# Altium schematic symbol library WB_CONNECTOR.SchLib: 19 symbols
Pins are listed as number, name and electrical type; pins without a type are passive.

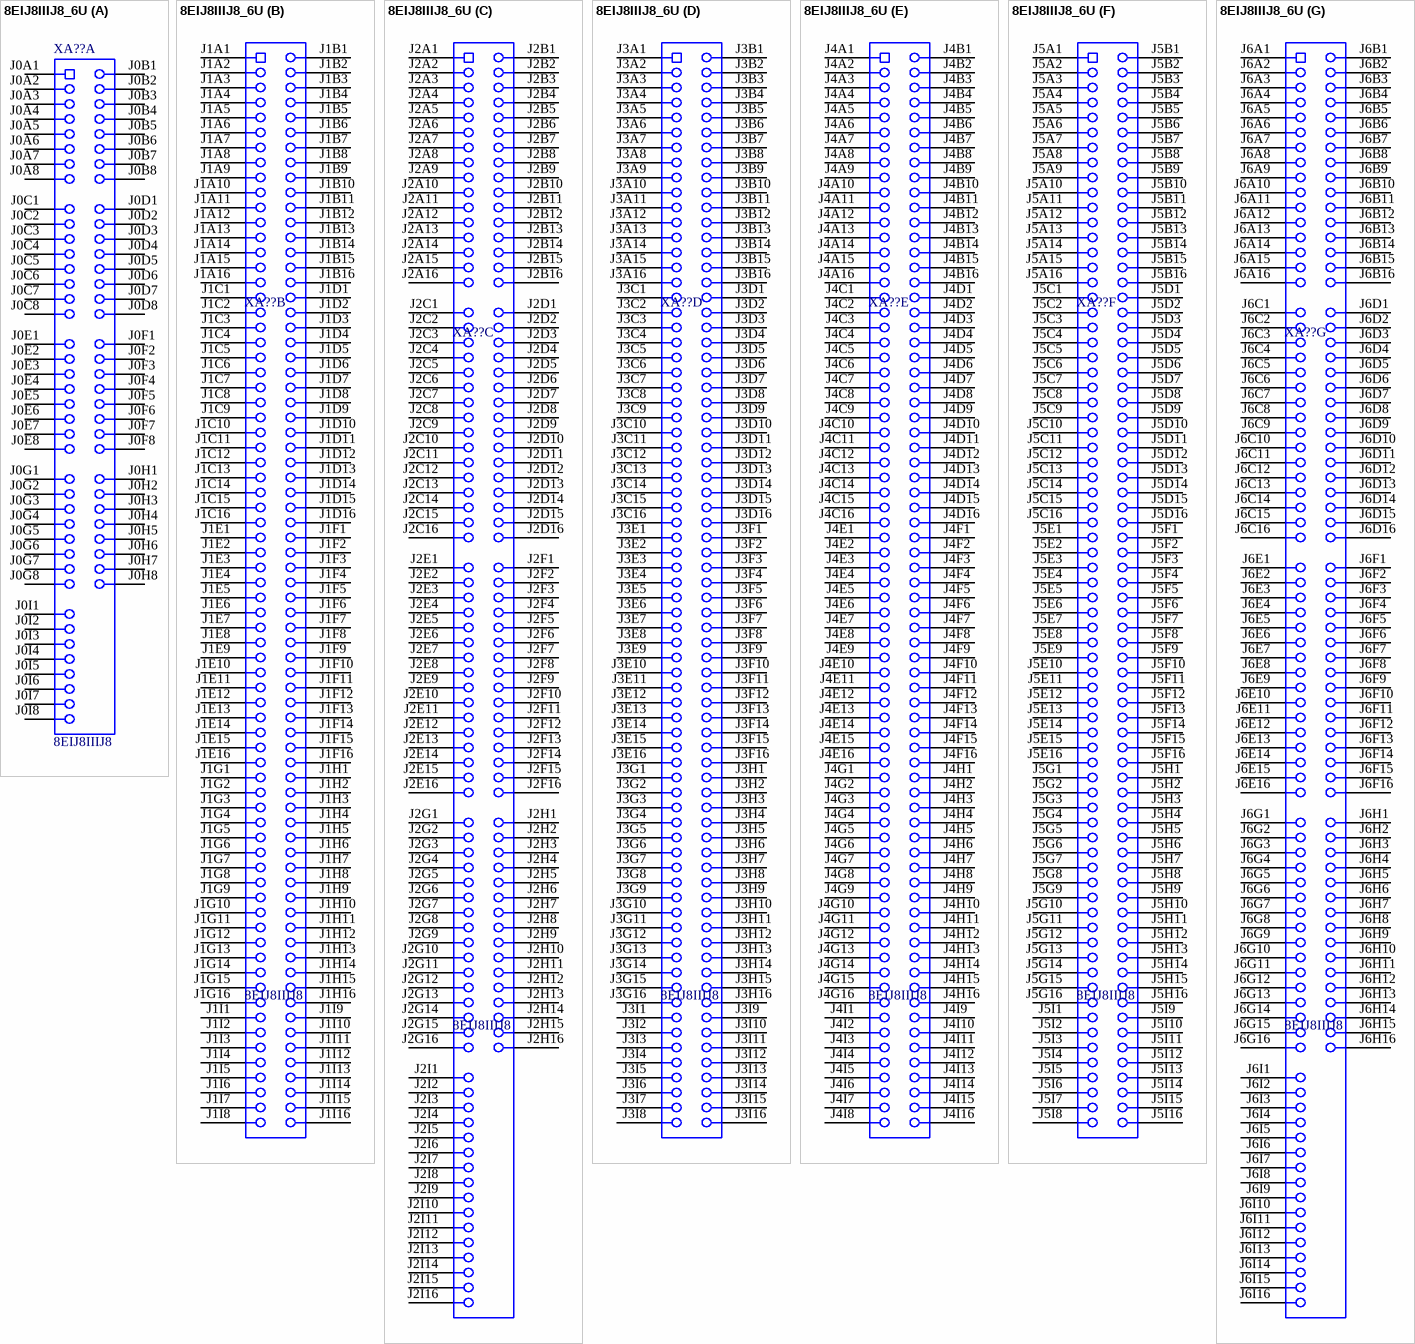
[diagram p0: symbol 8EIJ8IIIJ8_6U]

## 8EIJ8IIIJ8_6U
designator XA??, comment 8EIJ8IIIJ8
footprint 8EIJ8IIIJ8
part A pins: J0A1, J0A2, J0A3, J0A4, J0A5, J0A6, J0A7, J0A8, J0B1, J0B2, J0B3, J0B4, J0B5, J0B6, J0B7, J0B8, J0C1, J0C2, J0C3, J0C4, J0C5, J0C6, J0C7, J0C8, J0D1, J0D2, J0D3, J0D4, J0D5, J0D6, J0D7, J0D8, J0E1, J0E2, J0E3, J0E4, J0E5, J0E6, J0E7, J0E8, J0F1, J0F2, J0F3, J0F4, J0F5, J0F6, J0F7, J0F8, J0G1, J0G2, J0G3, J0G4, J0G5, J0G6, J0G7, J0G8, J0H1, J0H2, J0H3, J0H4, J0H5, J0H6, J0H7, J0H8, J0I1, J0I2, J0I3, J0I4, J0I5, J0I6, J0I7, J0I8
part B pins: J1A1, J1A2, J1A3, J1A4, J1A5, J1A6, J1A7, J1A8, J1A9, J1A10, J1A11, J1A12, J1A13, J1A14, J1A15, J1A16, J1B1, J1B2, J1B3, J1B4, J1B5, J1B6, J1B7, J1B8, J1B9, J1B10, J1B11, J1B12, J1B13, J1B14, J1B15, J1B16, J1C1, J1C2, J1C3, J1C4, J1C5, J1C6, J1C7, J1C8, J1C9, J1C10, J1C11, J1C12, J1C13, J1C14, J1C15, J1C16, J1D1, J1D2, J1D3, J1D4, J1D5, J1D6, J1D7, J1D8, J1D9, J1D10, J1D11, J1D12, J1D13, J1D14, J1D15, J1D16, J1E1, J1E2, J1E3, J1E4, J1E5, J1E6, J1E7, J1E8, J1E9, J1E10, J1E11, J1E12, J1E13, J1E14, J1E15, J1E16, J1F1, J1F2, J1F3, J1F4, J1F5, J1F6, J1F7, J1F8, J1F9, J1F10, J1F11, J1F12, J1F13, J1F14, J1F15, J1F16, J1G1, J1G2, J1G3, J1G4, J1G5, J1G6, J1G7, J1G8, J1G9, J1G10, J1G11, J1G12, J1G13, J1G14, J1G15, J1G16, J1H1, J1H2, J1H3, J1H4, J1H5, J1H6, J1H7, J1H8, J1H9, J1H10, J1H11, J1H12, J1H13, J1H14, J1H15, J1H16, J1I1, J1I2, J1I3, J1I4, J1I5, J1I6, J1I7, J1I8, J1I9, J1I10, J1I11, J1I12, J1I13, J1I14, J1I15, J1I16
part C pins: J2A1, J2A2, J2A3, J2A4, J2A5, J2A6, J2A7, J2A8, J2A9, J2A10, J2A11, J2A12, J2A13, J2A14, J2A15, J2A16, J2B1, J2B2, J2B3, J2B4, J2B5, J2B6, J2B7, J2B8, J2B9, J2B10, J2B11, J2B12, J2B13, J2B14, J2B15, J2B16, J2C1, J2C2, J2C3, J2C4, J2C5, J2C6, J2C7, J2C8, J2C9, J2C10, J2C11, J2C12, J2C13, J2C14, J2C15, J2C16, J2D1, J2D2, J2D3, J2D4, J2D5, J2D6, J2D7, J2D8, J2D9, J2D10, J2D11, J2D12, J2D13, J2D14, J2D15, J2D16, J2E1, J2E2, J2E3, J2E4, J2E5, J2E6, J2E7, J2E8, J2E9, J2E10, J2E11, J2E12, J2E13, J2E14, J2E15, J2E16, J2F1, J2F2, J2F3, J2F4, J2F5, J2F6, J2F7, J2F8, J2F9, J2F10, J2F11, J2F12, J2F13, J2F14, J2F15, J2F16, J2G1, J2G2, J2G3, J2G4, J2G5, J2G6, J2G7, J2G8, J2G9, J2G10, J2G11, J2G12, J2G13, J2G14, J2G15, J2G16, J2H1, J2H2, J2H3, J2H4, J2H5, J2H6, J2H7, J2H8, J2H9, J2H10, J2H11, J2H12, J2H13, J2H14, J2H15, J2H16, J2I1, J2I2, J2I3, J2I4, J2I5, J2I6, J2I7, J2I8, J2I9, J2I10, J2I11, J2I12, J2I13, J2I14, J2I15, J2I16
part D pins: J3A1, J3A2, J3A3, J3A4, J3A5, J3A6, J3A7, J3A8, J3A9, J3A10, J3A11, J3A12, J3A13, J3A14, J3A15, J3A16, J3B1, J3B2, J3B3, J3B4, J3B5, J3B6, J3B7, J3B8, J3B9, J3B10, J3B11, J3B12, J3B13, J3B14, J3B15, J3B16, J3C1, J3C2, J3C3, J3C4, J3C5, J3C6, J3C7, J3C8, J3C9, J3C10, J3C11, J3C12, J3C13, J3C14, J3C15, J3C16, J3D1, J3D2, J3D3, J3D4, J3D5, J3D6, J3D7, J3D8, J3D9, J3D10, J3D11, J3D12, J3D13, J3D14, J3D15, J3D16, J3E1, J3E2, J3E3, J3E4, J3E5, J3E6, J3E7, J3E8, J3E9, J3E10, J3E11, J3E12, J3E13, J3E14, J3E15, J3E16, J3F1, J3F2, J3F3, J3F4, J3F5, J3F6, J3F7, J3F8, J3F9, J3F10, J3F11, J3F12, J3F13, J3F14, J3F15, J3F16, J3G1, J3G2, J3G3, J3G4, J3G5, J3G6, J3G7, J3G8, J3G9, J3G10, J3G11, J3G12, J3G13, J3G14, J3G15, J3G16, J3H1, J3H2, J3H3, J3H4, J3H5, J3H6, J3H7, J3H8, J3H9, J3H10, J3H11, J3H12, J3H13, J3H14, J3H15, J3H16, J3I1, J3I2, J3I3, J3I4, J3I5, J3I6, J3I7, J3I8, J3I9, J3I10, J3I11, J3I12, J3I13, J3I14, J3I15, J3I16
part E pins: J4A1, J4A2, J4A3, J4A4, J4A5, J4A6, J4A7, J4A8, J4A9, J4A10, J4A11, J4A12, J4A13, J4A14, J4A15, J4A16, J4B1, J4B2, J4B3, J4B4, J4B5, J4B6, J4B7, J4B8, J4B9, J4B10, J4B11, J4B12, J4B13, J4B14, J4B15, J4B16, J4C1, J4C2, J4C3, J4C4, J4C5, J4C6, J4C7, J4C8, J4C9, J4C10, J4C11, J4C12, J4C13, J4C14, J4C15, J4C16, J4D1, J4D2, J4D3, J4D4, J4D5, J4D6, J4D7, J4D8, J4D9, J4D10, J4D11, J4D12, J4D13, J4D14, J4D15, J4D16, J4E1, J4E2, J4E3, J4E4, J4E5, J4E6, J4E7, J4E8, J4E9, J4E10, J4E11, J4E12, J4E13, J4E14, J4E15, J4E16, J4F1, J4F2, J4F3, J4F4, J4F5, J4F6, J4F7, J4F8, J4F9, J4F10, J4F11, J4F12, J4F13, J4F14, J4F15, J4F16, J4G1, J4G2, J4G3, J4G4, J4G5, J4G6, J4G7, J4G8, J4G9, J4G10, J4G11, J4G12, J4G13, J4G14, J4G15, J4G16, J4H1, J4H2, J4H3, J4H4, J4H5, J4H6, J4H7, J4H8, J4H9, J4H10, J4H11, J4H12, J4H13, J4H14, J4H15, J4H16, J4I1, J4I2, J4I3, J4I4, J4I5, J4I6, J4I7, J4I8, J4I9, J4I10, J4I11, J4I12, J4I13, J4I14, J4I15, J4I16
part F pins: J5A1, J5A2, J5A3, J5A4, J5A5, J5A6, J5A7, J5A8, J5A9, J5A10, J5A11, J5A12, J5A13, J5A14, J5A15, J5A16, J5B1, J5B2, J5B3, J5B4, J5B5, J5B6, J5B7, J5B8, J5B9, J5B10, J5B11, J5B12, J5B13, J5B14, J5B15, J5B16, J5C1, J5C2, J5C3, J5C4, J5C5, J5C6, J5C7, J5C8, J5C9, J5C10, J5C11, J5C12, J5C13, J5C14, J5C15, J5C16, J5D1, J5D2, J5D3, J5D4, J5D5, J5D6, J5D7, J5D8, J5D9, J5D10, J5D11, J5D12, J5D13, J5D14, J5D15, J5D16, J5E1, J5E2, J5E3, J5E4, J5E5, J5E6, J5E7, J5E8, J5E9, J5E10, J5E11, J5E12, J5E13, J5E14, J5E15, J5E16, J5F1, J5F2, J5F3, J5F4, J5F5, J5F6, J5F7, J5F8, J5F9, J5F10, J5F11, J5F12, J5F13, J5F14, J5F15, J5F16, J5G1, J5G2, J5G3, J5G4, J5G5, J5G6, J5G7, J5G8, J5G9, J5G10, J5G11, J5G12, J5G13, J5G14, J5G15, J5G16, J5H1, J5H2, J5H3, J5H4, J5H5, J5H6, J5H7, J5H8, J5H9, J5H10, J5H11, J5H12, J5H13, J5H14, J5H15, J5H16, J5I1, J5I2, J5I3, J5I4, J5I5, J5I6, J5I7, J5I8, J5I9, J5I10, J5I11, J5I12, J5I13, J5I14, J5I15, J5I16
part G pins: J6A1, J6A2, J6A3, J6A4, J6A5, J6A6, J6A7, J6A8, J6A9, J6A10, J6A11, J6A12, J6A13, J6A14, J6A15, J6A16, J6B1, J6B2, J6B3, J6B4, J6B5, J6B6, J6B7, J6B8, J6B9, J6B10, J6B11, J6B12, J6B13, J6B14, J6B15, J6B16, J6C1, J6C2, J6C3, J6C4, J6C5, J6C6, J6C7, J6C8, J6C9, J6C10, J6C11, J6C12, J6C13, J6C14, J6C15, J6C16, J6D1, J6D2, J6D3, J6D4, J6D5, J6D6, J6D7, J6D8, J6D9, J6D10, J6D11, J6D12, J6D13, J6D14, J6D15, J6D16, J6E1, J6E2, J6E3, J6E4, J6E5, J6E6, J6E7, J6E8, J6E9, J6E10, J6E11, J6E12, J6E13, J6E14, J6E15, J6E16, J6F1, J6F2, J6F3, J6F4, J6F5, J6F6, J6F7, J6F8, J6F9, J6F10, J6F11, J6F12, J6F13, J6F14, J6F15, J6F16, J6G1, J6G2, J6G3, J6G4, J6G5, J6G6, J6G7, J6G8, J6G9, J6G10, J6G11, J6G12, J6G13, J6G14, J6G15, J6G16, J6H1, J6H2, J6H3, J6H4, J6H5, J6H6, J6H7, J6H8, J6H9, J6H10, J6H11, J6H12, J6H13, J6H14, J6H15, J6H16, J6I1, J6I2, J6I3, J6I4, J6I5, J6I6, J6I7, J6I8, J6I9, J6I10, J6I11, J6I12, J6I13, J6I14, J6I15, J6I16

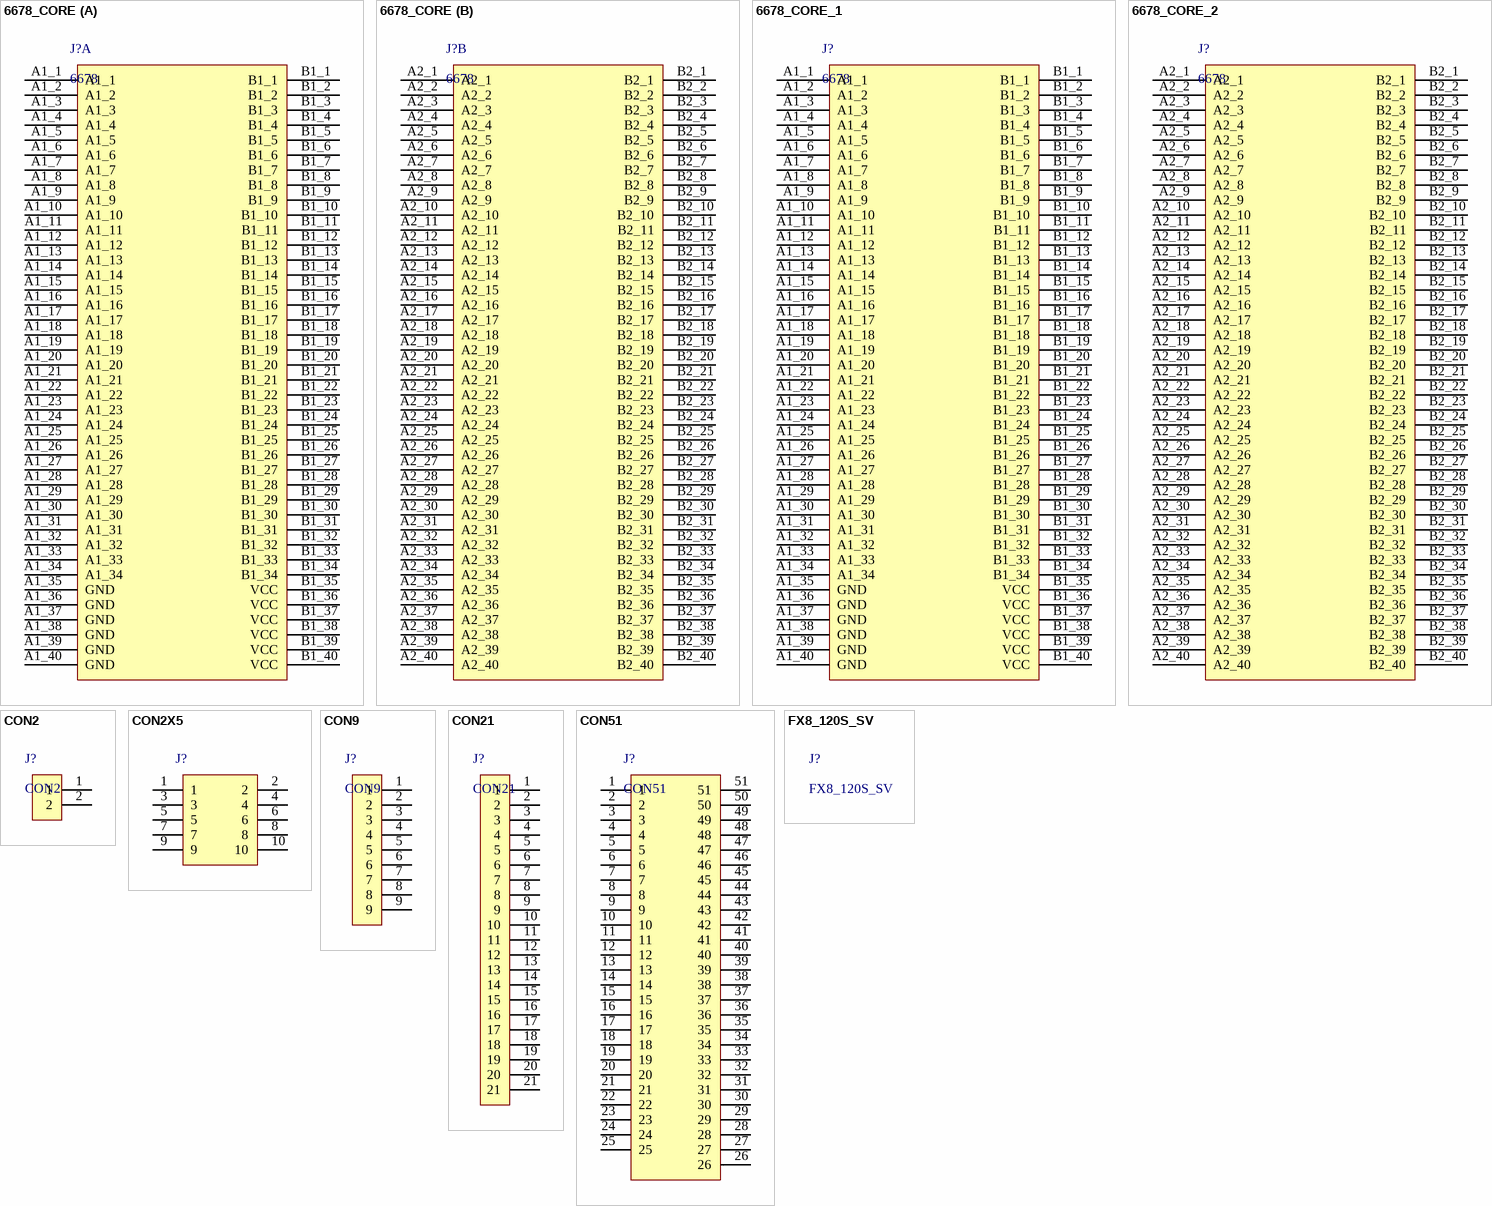
[diagram p1: symbols 6678_CORE to FX8_120S_SV]

## 6678_CORE
designator J?, comment 6678
part A pins: A1_1, A1_2, A1_3, A1_4, A1_5, A1_6, A1_7, A1_8, A1_9, A1_10, A1_11, A1_12, A1_13, A1_14, A1_15, A1_16, A1_17, A1_18, A1_19, A1_20, A1_21, A1_22, A1_23, A1_24, A1_25, A1_26, A1_27, A1_28, A1_29, A1_30, A1_31, A1_32, A1_33, A1_34, A1_35 GND, A1_36 GND, A1_37 GND, A1_38 GND, A1_39 GND, A1_40 GND, B1_1, B1_2, B1_3, B1_4, B1_5, B1_6, B1_7, B1_8, B1_9, B1_10, B1_11, B1_12, B1_13, B1_14, B1_15, B1_16, B1_17, B1_18, B1_19, B1_20, B1_21, B1_22, B1_23, B1_24, B1_25, B1_26, B1_27, B1_28, B1_29, B1_30, B1_31, B1_32, B1_33, B1_34, B1_35 VCC, B1_36 VCC, B1_37 VCC, B1_38 VCC, B1_39 VCC, B1_40 VCC
part B pins: A2_1, A2_2, A2_3, A2_4, A2_5, A2_6, A2_7, A2_8, A2_9, A2_10, A2_11, A2_12, A2_13, A2_14, A2_15, A2_16, A2_17, A2_18, A2_19, A2_20, A2_21, A2_22, A2_23, A2_24, A2_25, A2_26, A2_27, A2_28, A2_29, A2_30, A2_31, A2_32, A2_33, A2_34, A2_35, A2_36, A2_37, A2_38, A2_39, A2_40, B2_1, B2_2, B2_3, B2_4, B2_5, B2_6, B2_7, B2_8, B2_9, B2_10, B2_11, B2_12, B2_13, B2_14, B2_15, B2_16, B2_17, B2_18, B2_19, B2_20, B2_21, B2_22, B2_23, B2_24, B2_25, B2_26, B2_27, B2_28, B2_29, B2_30, B2_31, B2_32, B2_33, B2_34, B2_35, B2_36, B2_37, B2_38, B2_39, B2_40

## 6678_CORE_1
designator J?, comment 6678
pins: A1_1, A1_2, A1_3, A1_4, A1_5, A1_6, A1_7, A1_8, A1_9, A1_10, A1_11, A1_12, A1_13, A1_14, A1_15, A1_16, A1_17, A1_18, A1_19, A1_20, A1_21, A1_22, A1_23, A1_24, A1_25, A1_26, A1_27, A1_28, A1_29, A1_30, A1_31, A1_32, A1_33, A1_34, A1_35 GND, A1_36 GND, A1_37 GND, A1_38 GND, A1_39 GND, A1_40 GND, B1_1, B1_2, B1_3, B1_4, B1_5, B1_6, B1_7, B1_8, B1_9, B1_10, B1_11, B1_12, B1_13, B1_14, B1_15, B1_16, B1_17, B1_18, B1_19, B1_20, B1_21, B1_22, B1_23, B1_24, B1_25, B1_26, B1_27, B1_28, B1_29, B1_30, B1_31, B1_32, B1_33, B1_34, B1_35 VCC, B1_36 VCC, B1_37 VCC, B1_38 VCC, B1_39 VCC, B1_40 VCC

## 6678_CORE_2
designator J?, comment 6678
pins: A2_1, A2_2, A2_3, A2_4, A2_5, A2_6, A2_7, A2_8, A2_9, A2_10, A2_11, A2_12, A2_13, A2_14, A2_15, A2_16, A2_17, A2_18, A2_19, A2_20, A2_21, A2_22, A2_23, A2_24, A2_25, A2_26, A2_27, A2_28, A2_29, A2_30, A2_31, A2_32, A2_33, A2_34, A2_35, A2_36, A2_37, A2_38, A2_39, A2_40, B2_1, B2_2, B2_3, B2_4, B2_5, B2_6, B2_7, B2_8, B2_9, B2_10, B2_11, B2_12, B2_13, B2_14, B2_15, B2_16, B2_17, B2_18, B2_19, B2_20, B2_21, B2_22, B2_23, B2_24, B2_25, B2_26, B2_27, B2_28, B2_29, B2_30, B2_31, B2_32, B2_33, B2_34, B2_35, B2_36, B2_37, B2_38, B2_39, B2_40

## CON2
designator J?
pins: 1, 2

## CON2X5
designator J?
pins: 1, 2, 3, 4, 5, 6, 7, 8, 9, 10

## CON9
designator J?
pins: 1, 2, 3, 4, 5, 6, 7, 8, 9

## CON21
designator J?
pins: 1, 2, 3, 4, 5, 6, 7, 8, 9, 10, 11, 12, 13, 14, 15, 16, 17, 18, 19, 20, 21

## CON51
designator J?
pins: 1, 2, 3, 4, 5, 6, 7, 8, 9, 10, 11, 12, 13, 14, 15, 16, 17, 18, 19, 20, 21, 22, 23, 24, 25, 26, 27, 28, 29, 30, 31, 32, 33, 34, 35, 36, 37, 38, 39, 40, 41, 42, 43, 44, 45, 46, 47, 48, 49, 50, 51

## FX8_120S_SV
designator J?

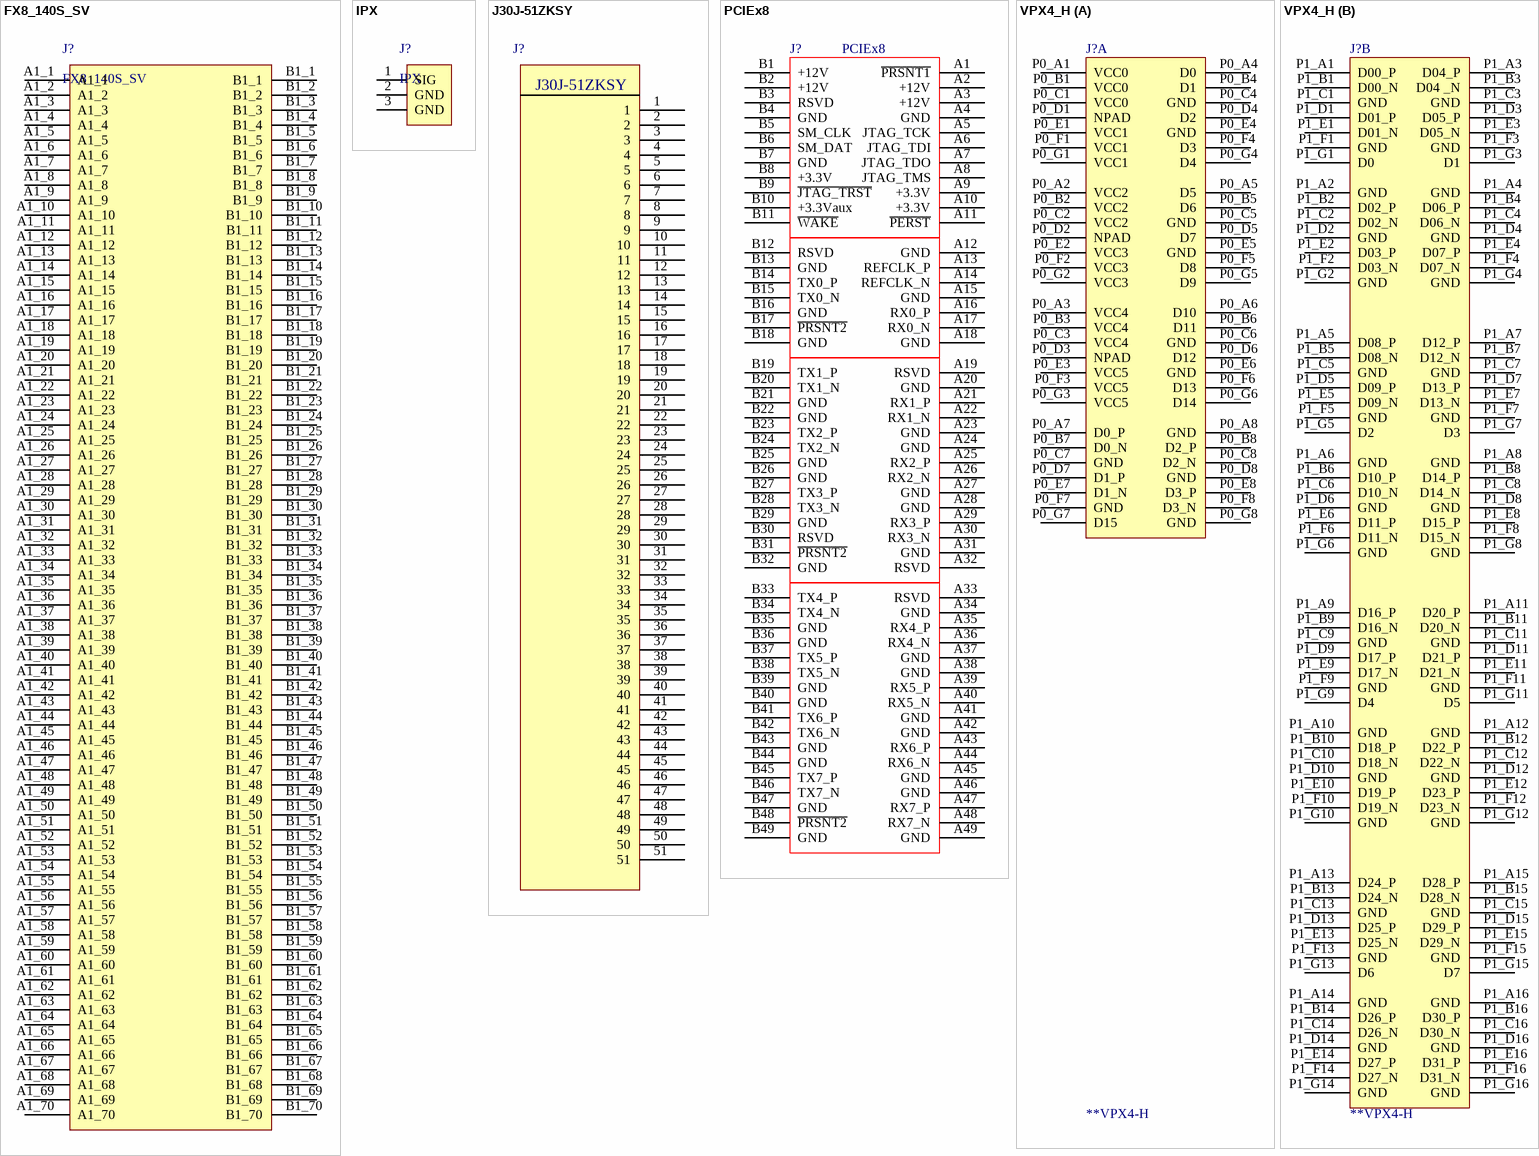
[diagram p2: symbols FX8_140S_SV to VPX4_H]

## FX8_140S_SV
designator J?
pins: A1_1, A1_2, A1_3, A1_4, A1_5, A1_6, A1_7, A1_8, A1_9, A1_10, A1_11, A1_12, A1_13, A1_14, A1_15, A1_16, A1_17, A1_18, A1_19, A1_20, A1_21, A1_22, A1_23, A1_24, A1_25, A1_26, A1_27, A1_28, A1_29, A1_30, A1_31, A1_32, A1_33, A1_34, A1_35, A1_36, A1_37, A1_38, A1_39, A1_40, A1_41, A1_42, A1_43, A1_44, A1_45, A1_46, A1_47, A1_48, A1_49, A1_50, A1_51, A1_52, A1_53, A1_54, A1_55, A1_56, A1_57, A1_58, A1_59, A1_60, A1_61, A1_62, A1_63, A1_64, A1_65, A1_66, A1_67, A1_68, A1_69, A1_70, B1_1, B1_2, B1_3, B1_4, B1_5, B1_6, B1_7, B1_8, B1_9, B1_10, B1_11, B1_12, B1_13, B1_14, B1_15, B1_16, B1_17, B1_18, B1_19, B1_20, B1_21, B1_22, B1_23, B1_24, B1_25, B1_26, B1_27, B1_28, B1_29, B1_30, B1_31, B1_32, B1_33, B1_34, B1_35, B1_36, B1_37, B1_38, B1_39, B1_40, B1_41, B1_42, B1_43, B1_44, B1_45, B1_46, B1_47, B1_48, B1_49, B1_50, B1_51, B1_52, B1_53, B1_54, B1_55, B1_56, B1_57, B1_58, B1_59, B1_60, B1_61, B1_62, B1_63, B1_64, B1_65, B1_66, B1_67, B1_68, B1_69, B1_70

## IPX
designator J?
pins: 1 SIG, 2 GND, 3 GND

## J30J-51ZKSY
designator J?
pins: 1, 2, 3, 4, 5, 6, 7, 8, 9, 10, 11, 12, 13, 14, 15, 16, 17, 18, 19, 20, 21, 22, 23, 24, 25, 26, 27, 28, 29, 30, 31, 32, 33, 34, 35, 36, 37, 38, 39, 40, 41, 42, 43, 44, 45, 46, 47, 48, 49, 50, 51

## PCIEx8
designator J?
型号: PCIEx8
pins: A1 ~{PRSNT1}, A2 +12V, A3 +12V, A4 GND, A5 JTAG_TCK, A6 JTAG_TDI, A7 JTAG_TDO, A8 JTAG_TMS, A9 +3.3V, A10 +3.3V, A11 ~{PERST}, A12 GND, A13 REFCLK_P, A14 REFCLK_N, A15 GND, A16 RX0_P, A17 RX0_N, A18 GND, A19 RSVD, A20 GND, A21 RX1_P, A22 RX1_N, A23 GND, A24 GND, A25 RX2_P, A26 RX2_N, A27 GND, A28 GND, A29 RX3_P, A30 RX3_N, A31 GND, A32 RSVD, A33 RSVD, A34 GND, A35 RX4_P, A36 RX4_N, A37 GND, A38 GND, A39 RX5_P, A40 RX5_N, A41 GND, A42 GND, A43 RX6_P, A44 RX6_N, A45 GND, A46 GND, A47 RX7_P, A48 RX7_N, A49 GND, B1 +12V, B2 +12V, B3 RSVD, B4 GND, B5 SM_CLK, B6 SM_DAT, B7 GND, B8 +3.3V, B9 ~{JTAG_TRST}, B10 +3.3Vaux, B11 ~{WAKE}, B12 RSVD, B13 GND, B14 TX0_P, B15 TX0_N, B16 GND, B17 ~{PRSNT2}, B18 GND, B19 TX1_P, B20 TX1_N, B21 GND, B22 GND, B23 TX2_P, B24 TX2_N, B25 GND, B26 GND, B27 TX3_P, B28 TX3_N, B29 GND, B30 RSVD, B31 ~{PRSNT2}, B32 GND, B33 TX4_P, B34 TX4_N, B35 GND, B36 GND, B37 TX5_P, B38 TX5_N, B39 GND, B40 GND, B41 TX6_P, B42 TX6_N, B43 GND, B44 GND, B45 TX7_P, B46 TX7_N, B47 GND, B48 ~{PRSNT2}, B49 GND

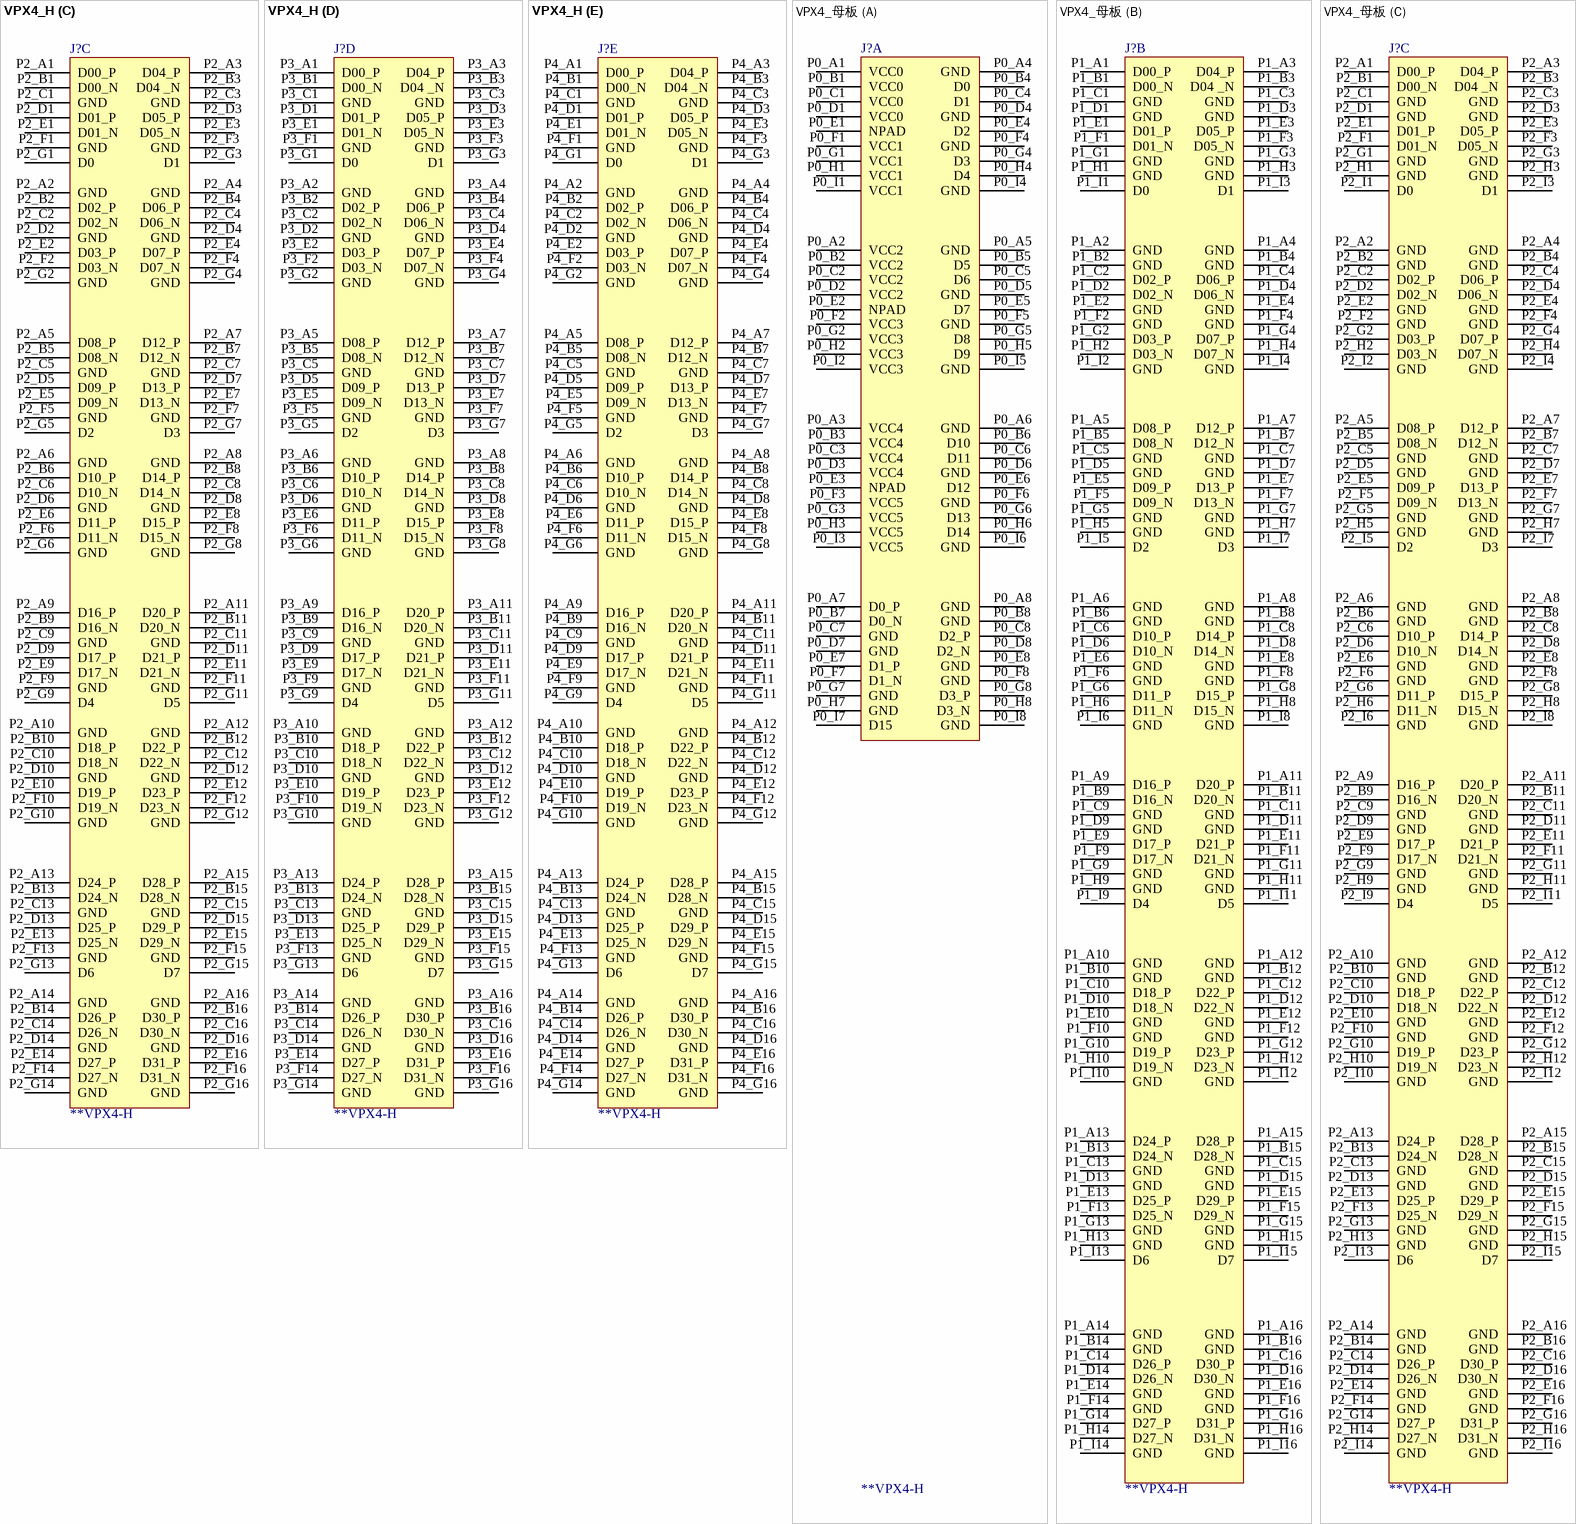
[diagram p3: symbols VPX4_H to VPX4_母板]

## VPX4_H
designator J?  型号: **VPX4-H  (hidden comment: VPX4_H)
footprint VPX_3U
part A pins: P0_A1 VCC0, P0_A2 VCC2, P0_A3 VCC4, P0_A4 D0, P0_A5 D5, P0_A6 D10, P0_A7 D0_P, P0_A8 GND, P0_B1 VCC0, P0_B2 VCC2, P0_B3 VCC4, P0_B4 D1, P0_B5 D6, P0_B6 D11, P0_B7 D0_N, P0_B8 D2_P, P0_C1 VCC0, P0_C2 VCC2, P0_C3 VCC4, P0_C4 GND, P0_C5 GND, P0_C6 GND, P0_C7 GND, P0_C8 D2_N, P0_D1 NPAD, P0_D2 NPAD, P0_D3 NPAD, P0_D4 D2, P0_D5 D7, P0_D6 D12, P0_D7 D1_P, P0_D8 GND, P0_E1 VCC1, P0_E2 VCC3, P0_E3 VCC5, P0_E4 GND, P0_E5 GND, P0_E6 GND, P0_E7 D1_N, P0_E8 D3_P, P0_F1 VCC1, P0_F2 VCC3, P0_F3 VCC5, P0_F4 D3, P0_F5 D8, P0_F6 D13, P0_F7 GND, P0_F8 D3_N, P0_G1 VCC1, P0_G2 VCC3, P0_G3 VCC5, P0_G4 D4, P0_G5 D9, P0_G6 D14, P0_G7 D15, P0_G8 GND
part B pins: P1_A1 D00_P, P1_A2 GND, P1_A3 D04_P, P1_A4 GND, P1_A5 D08_P, P1_A6 GND, P1_A7 D12_P, P1_A8 GND, P1_A9 D16_P, P1_A10 GND, P1_A11 D20_P, P1_A12 GND, P1_A13 D24_P, P1_A14 GND, P1_A15 D28_P, P1_A16 GND, P1_B1 D00_N, P1_B2 D02_P, P1_B3 D04 _N, P1_B4 D06_P, P1_B5 D08_N, P1_B6 D10_P, P1_B7 D12_N, P1_B8 D14_P, P1_B9 D16_N, P1_B10 D18_P, P1_B11 D20_N, P1_B12 D22_P, P1_B13 D24_N, P1_B14 D26_P, P1_B15 D28_N, P1_B16 D30_P, P1_C1 GND, P1_C2 D02_N, P1_C3 GND, P1_C4 D06_N, P1_C5 GND, P1_C6 D10_N, P1_C7 GND, P1_C8 D14_N, P1_C9 GND, P1_C10 D18_N, P1_C11 GND, P1_C12 D22_N, P1_C13 GND, P1_C14 D26_N, P1_C15 GND, P1_C16 D30_N, P1_D1 D01_P, P1_D2 GND, P1_D3 D05_P, P1_D4 GND, P1_D5 D09_P, P1_D6 GND, P1_D7 D13_P, P1_D8 GND, P1_D9 D17_P, P1_D10 GND, P1_D11 D21_P, P1_D12 GND, P1_D13 D25_P, P1_D14 GND, P1_D15 D29_P, P1_D16 GND, P1_E1 D01_N, P1_E2 D03_P, P1_E3 D05_N, P1_E4 D07_P, P1_E5 D09_N, P1_E6 D11_P, P1_E7 D13_N, P1_E8 D15_P, P1_E9 D17_N, P1_E10 D19_P, P1_E11 D21_N, P1_E12 D23_P, P1_E13 D25_N, P1_E14 D27_P, P1_E15 D29_N, P1_E16 D31_P, P1_F1 GND, P1_F2 D03_N, P1_F3 GND, P1_F4 D07_N, P1_F5 GND, P1_F6 D11_N, P1_F7 GND, P1_F8 D15_N, P1_F9 GND, P1_F10 D19_N, P1_F11 GND, P1_F12 D23_N, P1_F13 GND, P1_F14 D27_N, P1_F15 GND, P1_F16 D31_N, P1_G1 D0, P1_G2 GND, P1_G3 D1, P1_G4 GND, P1_G5 D2, P1_G6 GND, P1_G7 D3, P1_G8 GND, P1_G9 D4, P1_G10 GND, P1_G11 D5, P1_G12 GND, P1_G13 D6, P1_G14 GND, P1_G15 D7, P1_G16 GND
part C pins: P2_A1 D00_P, P2_A2 GND, P2_A3 D04_P, P2_A4 GND, P2_A5 D08_P, P2_A6 GND, P2_A7 D12_P, P2_A8 GND, P2_A9 D16_P, P2_A10 GND, P2_A11 D20_P, P2_A12 GND, P2_A13 D24_P, P2_A14 GND, P2_A15 D28_P, P2_A16 GND, P2_B1 D00_N, P2_B2 D02_P, P2_B3 D04 _N, P2_B4 D06_P, P2_B5 D08_N, P2_B6 D10_P, P2_B7 D12_N, P2_B8 D14_P, P2_B9 D16_N, P2_B10 D18_P, P2_B11 D20_N, P2_B12 D22_P, P2_B13 D24_N, P2_B14 D26_P, P2_B15 D28_N, P2_B16 D30_P, P2_C1 GND, P2_C2 D02_N, P2_C3 GND, P2_C4 D06_N, P2_C5 GND, P2_C6 D10_N, P2_C7 GND, P2_C8 D14_N, P2_C9 GND, P2_C10 D18_N, P2_C11 GND, P2_C12 D22_N, P2_C13 GND, P2_C14 D26_N, P2_C15 GND, P2_C16 D30_N, P2_D1 D01_P, P2_D2 GND, P2_D3 D05_P, P2_D4 GND, P2_D5 D09_P, P2_D6 GND, P2_D7 D13_P, P2_D8 GND, P2_D9 D17_P, P2_D10 GND, P2_D11 D21_P, P2_D12 GND, P2_D13 D25_P, P2_D14 GND, P2_D15 D29_P, P2_D16 GND, P2_E1 D01_N, P2_E2 D03_P, P2_E3 D05_N, P2_E4 D07_P, P2_E5 D09_N, P2_E6 D11_P, P2_E7 D13_N, P2_E8 D15_P, P2_E9 D17_N, P2_E10 D19_P, P2_E11 D21_N, P2_E12 D23_P, P2_E13 D25_N, P2_E14 D27_P, P2_E15 D29_N, P2_E16 D31_P, P2_F1 GND, P2_F2 D03_N, P2_F3 GND, P2_F4 D07_N, P2_F5 GND, P2_F6 D11_N, P2_F7 GND, P2_F8 D15_N, P2_F9 GND, P2_F10 D19_N, P2_F11 GND, P2_F12 D23_N, P2_F13 GND, P2_F14 D27_N, P2_F15 GND, P2_F16 D31_N, P2_G1 D0, P2_G2 GND, P2_G3 D1, P2_G4 GND, P2_G5 D2, P2_G6 GND, P2_G7 D3, P2_G8 GND, P2_G9 D4, P2_G10 GND, P2_G11 D5, P2_G12 GND, P2_G13 D6, P2_G14 GND, P2_G15 D7, P2_G16 GND
part D pins: P3_A1 D00_P, P3_A2 GND, P3_A3 D04_P, P3_A4 GND, P3_A5 D08_P, P3_A6 GND, P3_A7 D12_P, P3_A8 GND, P3_A9 D16_P, P3_A10 GND, P3_A11 D20_P, P3_A12 GND, P3_A13 D24_P, P3_A14 GND, P3_A15 D28_P, P3_A16 GND, P3_B1 D00_N, P3_B2 D02_P, P3_B3 D04 _N, P3_B4 D06_P, P3_B5 D08_N, P3_B6 D10_P, P3_B7 D12_N, P3_B8 D14_P, P3_B9 D16_N, P3_B10 D18_P, P3_B11 D20_N, P3_B12 D22_P, P3_B13 D24_N, P3_B14 D26_P, P3_B15 D28_N, P3_B16 D30_P, P3_C1 GND, P3_C2 D02_N, P3_C3 GND, P3_C4 D06_N, P3_C5 GND, P3_C6 D10_N, P3_C7 GND, P3_C8 D14_N, P3_C9 GND, P3_C10 D18_N, P3_C11 GND, P3_C12 D22_N, P3_C13 GND, P3_C14 D26_N, P3_C15 GND, P3_C16 D30_N, P3_D1 D01_P, P3_D2 GND, P3_D3 D05_P, P3_D4 GND, P3_D5 D09_P, P3_D6 GND, P3_D7 D13_P, P3_D8 GND, P3_D9 D17_P, P3_D10 GND, P3_D11 D21_P, P3_D12 GND, P3_D13 D25_P, P3_D14 GND, P3_D15 D29_P, P3_D16 GND, P3_E1 D01_N, P3_E2 D03_P, P3_E3 D05_N, P3_E4 D07_P, P3_E5 D09_N, P3_E6 D11_P, P3_E7 D13_N, P3_E8 D15_P, P3_E9 D17_N, P3_E10 D19_P, P3_E11 D21_N, P3_E12 D23_P, P3_E13 D25_N, P3_E14 D27_P, P3_E15 D29_N, P3_E16 D31_P, P3_F1 GND, P3_F2 D03_N, P3_F3 GND, P3_F4 D07_N, P3_F5 GND, P3_F6 D11_N, P3_F7 GND, P3_F8 D15_N, P3_F9 GND, P3_F10 D19_N, P3_F11 GND, P3_F12 D23_N, P3_F13 GND, P3_F14 D27_N, P3_F15 GND, P3_F16 D31_N, P3_G1 D0, P3_G2 GND, P3_G3 D1, P3_G4 GND, P3_G5 D2, P3_G6 GND, P3_G7 D3, P3_G8 GND, P3_G9 D4, P3_G10 GND, P3_G11 D5, P3_G12 GND, P3_G13 D6, P3_G14 GND, P3_G15 D7, P3_G16 GND
part E pins: P4_A1 D00_P, P4_A2 GND, P4_A3 D04_P, P4_A4 GND, P4_A5 D08_P, P4_A6 GND, P4_A7 D12_P, P4_A8 GND, P4_A9 D16_P, P4_A10 GND, P4_A11 D20_P, P4_A12 GND, P4_A13 D24_P, P4_A14 GND, P4_A15 D28_P, P4_A16 GND, P4_B1 D00_N, P4_B2 D02_P, P4_B3 D04 _N, P4_B4 D06_P, P4_B5 D08_N, P4_B6 D10_P, P4_B7 D12_N, P4_B8 D14_P, P4_B9 D16_N, P4_B10 D18_P, P4_B11 D20_N, P4_B12 D22_P, P4_B13 D24_N, P4_B14 D26_P, P4_B15 D28_N, P4_B16 D30_P, P4_C1 GND, P4_C2 D02_N, P4_C3 GND, P4_C4 D06_N, P4_C5 GND, P4_C6 D10_N, P4_C7 GND, P4_C8 D14_N, P4_C9 GND, P4_C10 D18_N, P4_C11 GND, P4_C12 D22_N, P4_C13 GND, P4_C14 D26_N, P4_C15 GND, P4_C16 D30_N, P4_D1 D01_P, P4_D2 GND, P4_D3 D05_P, P4_D4 GND, P4_D5 D09_P, P4_D6 GND, P4_D7 D13_P, P4_D8 GND, P4_D9 D17_P, P4_D10 GND, P4_D11 D21_P, P4_D12 GND, P4_D13 D25_P, P4_D14 GND, P4_D15 D29_P, P4_D16 GND, P4_E1 D01_N, P4_E2 D03_P, P4_E3 D05_N, P4_E4 D07_P, P4_E5 D09_N, P4_E6 D11_P, P4_E7 D13_N, P4_E8 D15_P, P4_E9 D17_N, P4_E10 D19_P, P4_E11 D21_N, P4_E12 D23_P, P4_E13 D25_N, P4_E14 D27_P, P4_E15 D29_N, P4_E16 D31_P, P4_F1 GND, P4_F2 D03_N, P4_F3 GND, P4_F4 D07_N, P4_F5 GND, P4_F6 D11_N, P4_F7 GND, P4_F8 D15_N, P4_F9 GND, P4_F10 D19_N, P4_F11 GND, P4_F12 D23_N, P4_F13 GND, P4_F14 D27_N, P4_F15 GND, P4_F16 D31_N, P4_G1 D0, P4_G2 GND, P4_G3 D1, P4_G4 GND, P4_G5 D2, P4_G6 GND, P4_G7 D3, P4_G8 GND, P4_G9 D4, P4_G10 GND, P4_G11 D5, P4_G12 GND, P4_G13 D6, P4_G14 GND, P4_G15 D7, P4_G16 GND

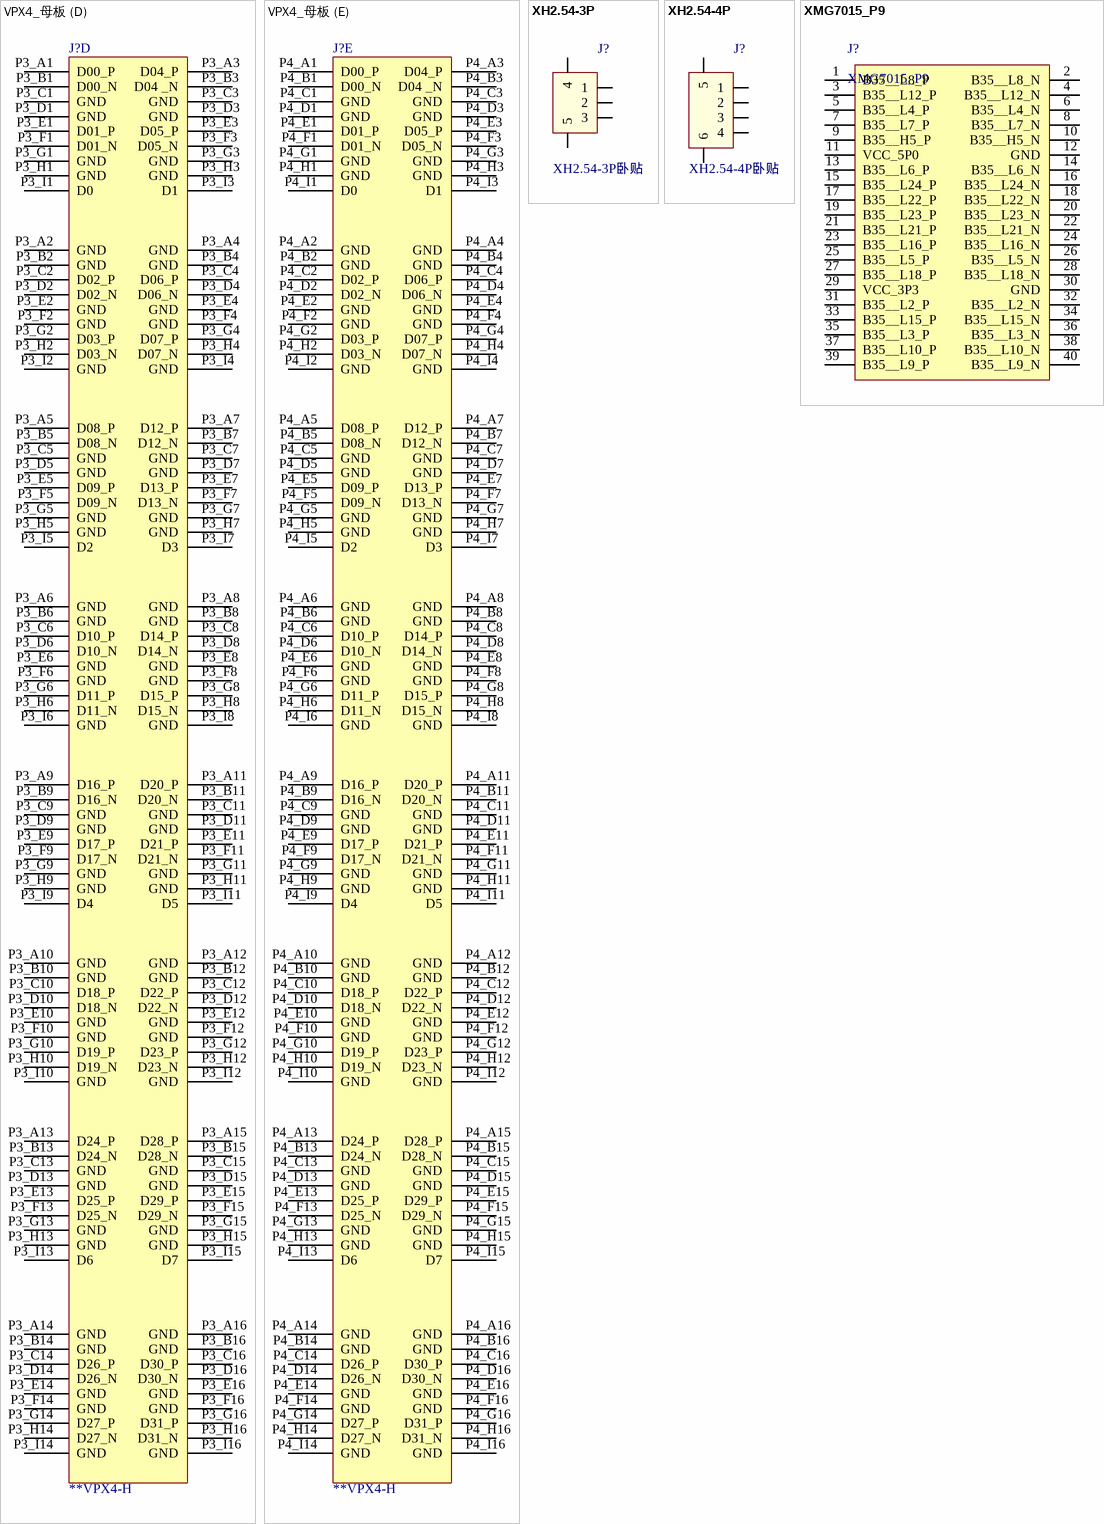
[diagram p4: symbols VPX4_母板 to XMG7015_P9]

## VPX4_母板
designator J?, comment 型号: **VPX4-H  (hidden comment: VPX4_H)
footprint VPX_3U
part A pins: P0_A1 VCC0, P0_A2 VCC2, P0_A3 VCC4, P0_A4 GND, P0_A5 GND, P0_A6 GND, P0_A7 D0_P, P0_A8 GND, P0_B1 VCC0, P0_B2 VCC2, P0_B3 VCC4, P0_B4 D0, P0_B5 D5, P0_B6 D10, P0_B7 D0_N, P0_B8 GND, P0_C1 VCC0, P0_C2 VCC2, P0_C3 VCC4, P0_C4 D1, P0_C5 D6, P0_C6 D11, P0_C7 GND, P0_C8 D2_P, P0_D1 VCC0, P0_D2 VCC2, P0_D3 VCC4, P0_D4 GND, P0_D5 GND, P0_D6 GND, P0_D7 GND, P0_D8 D2_N, P0_E1 NPAD, P0_E2 NPAD, P0_E3 NPAD, P0_E4 D2, P0_E5 D7, P0_E6 D12, P0_E7 D1_P, P0_E8 GND, P0_F1 VCC1, P0_F2 VCC3, P0_F3 VCC5, P0_F4 GND, P0_F5 GND, P0_F6 GND, P0_F7 D1_N, P0_F8 GND, P0_G1 VCC1, P0_G2 VCC3, P0_G3 VCC5, P0_G4 D3, P0_G5 D8, P0_G6 D13, P0_G7 GND, P0_G8 D3_P, P0_H1 VCC1, P0_H2 VCC3, P0_H3 VCC5, P0_H4 D4, P0_H5 D9, P0_H6 D14, P0_H7 GND, P0_H8 D3_N, P0_I1 VCC1, P0_I2 VCC3, P0_I3 VCC5, P0_I4 GND, P0_I5 GND, P0_I6 GND, P0_I7 D15, P0_I8 GND
part B pins: P1_A1 D00_P, P1_A2 GND, P1_A3 D04_P, P1_A4 GND, P1_A5 D08_P, P1_A6 GND, P1_A7 D12_P, P1_A8 GND, P1_A9 D16_P, P1_A10 GND, P1_A11 D20_P, P1_A12 GND, P1_A13 D24_P, P1_A14 GND, P1_A15 D28_P, P1_A16 GND, P1_B1 D00_N, P1_B2 GND, P1_B3 D04 _N, P1_B4 GND, P1_B5 D08_N, P1_B6 GND, P1_B7 D12_N, P1_B8 GND, P1_B9 D16_N, P1_B10 GND, P1_B11 D20_N, P1_B12 GND, P1_B13 D24_N, P1_B14 GND, P1_B15 D28_N, P1_B16 GND, P1_C1 GND, P1_C2 D02_P, P1_C3 GND, P1_C4 D06_P, P1_C5 GND, P1_C6 D10_P, P1_C7 GND, P1_C8 D14_P, P1_C9 GND, P1_C10 D18_P, P1_C11 GND, P1_C12 D22_P, P1_C13 GND, P1_C14 D26_P, P1_C15 GND, P1_C16 D30_P, P1_D1 GND, P1_D2 D02_N, P1_D3 GND, P1_D4 D06_N, P1_D5 GND, P1_D6 D10_N, P1_D7 GND, P1_D8 D14_N, P1_D9 GND, P1_D10 D18_N, P1_D11 GND, P1_D12 D22_N, P1_D13 GND, P1_D14 D26_N, P1_D15 GND, P1_D16 D30_N, P1_E1 D01_P, P1_E2 GND, P1_E3 D05_P, P1_E4 GND, P1_E5 D09_P, P1_E6 GND, P1_E7 D13_P, P1_E8 GND, P1_E9 D17_P, P1_E10 GND, P1_E11 D21_P, P1_E12 GND, P1_E13 D25_P, P1_E14 GND, P1_E15 D29_P, P1_E16 GND, P1_F1 D01_N, P1_F2 GND, P1_F3 D05_N, P1_F4 GND, P1_F5 D09_N, P1_F6 GND, P1_F7 D13_N, P1_F8 GND, P1_F9 D17_N, P1_F10 GND, P1_F11 D21_N, P1_F12 GND, P1_F13 D25_N, P1_F14 GND, P1_F15 D29_N, P1_F16 GND, P1_G1 GND, P1_G2 D03_P, P1_G3 GND, P1_G4 D07_P, P1_G5 GND, P1_G6 D11_P, P1_G7 GND, P1_G8 D15_P, P1_G9 GND, P1_G10 D19_P, P1_G11 GND, P1_G12 D23_P, P1_G13 GND, P1_G14 D27_P, P1_G15 GND, P1_G16 D31_P, P1_H1 GND, P1_H2 D03_N, P1_H3 GND, P1_H4 D07_N, P1_H5 GND, P1_H6 D11_N, P1_H7 GND, P1_H8 D15_N, P1_H9 GND, P1_H10 D19_N, P1_H11 GND, P1_H12 D23_N, P1_H13 GND, P1_H14 D27_N, P1_H15 GND, P1_H16 D31_N, P1_I1 D0, P1_I2 GND, P1_I3 D1, P1_I4 GND, P1_I5 D2, P1_I6 GND, P1_I7 D3, P1_I8 GND, P1_I9 D4, P1_I10 GND, P1_I11 D5, P1_I12 GND, P1_I13 D6, P1_I14 GND, P1_I15 D7, P1_I16 GND
part C pins: P2_A1 D00_P, P2_A2 GND, P2_A3 D04_P, P2_A4 GND, P2_A5 D08_P, P2_A6 GND, P2_A7 D12_P, P2_A8 GND, P2_A9 D16_P, P2_A10 GND, P2_A11 D20_P, P2_A12 GND, P2_A13 D24_P, P2_A14 GND, P2_A15 D28_P, P2_A16 GND, P2_B1 D00_N, P2_B2 GND, P2_B3 D04 _N, P2_B4 GND, P2_B5 D08_N, P2_B6 GND, P2_B7 D12_N, P2_B8 GND, P2_B9 D16_N, P2_B10 GND, P2_B11 D20_N, P2_B12 GND, P2_B13 D24_N, P2_B14 GND, P2_B15 D28_N, P2_B16 GND, P2_C1 GND, P2_C2 D02_P, P2_C3 GND, P2_C4 D06_P, P2_C5 GND, P2_C6 D10_P, P2_C7 GND, P2_C8 D14_P, P2_C9 GND, P2_C10 D18_P, P2_C11 GND, P2_C12 D22_P, P2_C13 GND, P2_C14 D26_P, P2_C15 GND, P2_C16 D30_P, P2_D1 GND, P2_D2 D02_N, P2_D3 GND, P2_D4 D06_N, P2_D5 GND, P2_D6 D10_N, P2_D7 GND, P2_D8 D14_N, P2_D9 GND, P2_D10 D18_N, P2_D11 GND, P2_D12 D22_N, P2_D13 GND, P2_D14 D26_N, P2_D15 GND, P2_D16 D30_N, P2_E1 D01_P, P2_E2 GND, P2_E3 D05_P, P2_E4 GND, P2_E5 D09_P, P2_E6 GND, P2_E7 D13_P, P2_E8 GND, P2_E9 D17_P, P2_E10 GND, P2_E11 D21_P, P2_E12 GND, P2_E13 D25_P, P2_E14 GND, P2_E15 D29_P, P2_E16 GND, P2_F1 D01_N, P2_F2 GND, P2_F3 D05_N, P2_F4 GND, P2_F5 D09_N, P2_F6 GND, P2_F7 D13_N, P2_F8 GND, P2_F9 D17_N, P2_F10 GND, P2_F11 D21_N, P2_F12 GND, P2_F13 D25_N, P2_F14 GND, P2_F15 D29_N, P2_F16 GND, P2_G1 GND, P2_G2 D03_P, P2_G3 GND, P2_G4 D07_P, P2_G5 GND, P2_G6 D11_P, P2_G7 GND, P2_G8 D15_P, P2_G9 GND, P2_G10 D19_P, P2_G11 GND, P2_G12 D23_P, P2_G13 GND, P2_G14 D27_P, P2_G15 GND, P2_G16 D31_P, P2_H1 GND, P2_H2 D03_N, P2_H3 GND, P2_H4 D07_N, P2_H5 GND, P2_H6 D11_N, P2_H7 GND, P2_H8 D15_N, P2_H9 GND, P2_H10 D19_N, P2_H11 GND, P2_H12 D23_N, P2_H13 GND, P2_H14 D27_N, P2_H15 GND, P2_H16 D31_N, P2_I1 D0, P2_I2 GND, P2_I3 D1, P2_I4 GND, P2_I5 D2, P2_I6 GND, P2_I7 D3, P2_I8 GND, P2_I9 D4, P2_I10 GND, P2_I11 D5, P2_I12 GND, P2_I13 D6, P2_I14 GND, P2_I15 D7, P2_I16 GND
part D pins: P3_A1 D00_P, P3_A2 GND, P3_A3 D04_P, P3_A4 GND, P3_A5 D08_P, P3_A6 GND, P3_A7 D12_P, P3_A8 GND, P3_A9 D16_P, P3_A10 GND, P3_A11 D20_P, P3_A12 GND, P3_A13 D24_P, P3_A14 GND, P3_A15 D28_P, P3_A16 GND, P3_B1 D00_N, P3_B2 GND, P3_B3 D04 _N, P3_B4 GND, P3_B5 D08_N, P3_B6 GND, P3_B7 D12_N, P3_B8 GND, P3_B9 D16_N, P3_B10 GND, P3_B11 D20_N, P3_B12 GND, P3_B13 D24_N, P3_B14 GND, P3_B15 D28_N, P3_B16 GND, P3_C1 GND, P3_C2 D02_P, P3_C3 GND, P3_C4 D06_P, P3_C5 GND, P3_C6 D10_P, P3_C7 GND, P3_C8 D14_P, P3_C9 GND, P3_C10 D18_P, P3_C11 GND, P3_C12 D22_P, P3_C13 GND, P3_C14 D26_P, P3_C15 GND, P3_C16 D30_P, P3_D1 GND, P3_D2 D02_N, P3_D3 GND, P3_D4 D06_N, P3_D5 GND, P3_D6 D10_N, P3_D7 GND, P3_D8 D14_N, P3_D9 GND, P3_D10 D18_N, P3_D11 GND, P3_D12 D22_N, P3_D13 GND, P3_D14 D26_N, P3_D15 GND, P3_D16 D30_N, P3_E1 D01_P, P3_E2 GND, P3_E3 D05_P, P3_E4 GND, P3_E5 D09_P, P3_E6 GND, P3_E7 D13_P, P3_E8 GND, P3_E9 D17_P, P3_E10 GND, P3_E11 D21_P, P3_E12 GND, P3_E13 D25_P, P3_E14 GND, P3_E15 D29_P, P3_E16 GND, P3_F1 D01_N, P3_F2 GND, P3_F3 D05_N, P3_F4 GND, P3_F5 D09_N, P3_F6 GND, P3_F7 D13_N, P3_F8 GND, P3_F9 D17_N, P3_F10 GND, P3_F11 D21_N, P3_F12 GND, P3_F13 D25_N, P3_F14 GND, P3_F15 D29_N, P3_F16 GND, P3_G1 GND, P3_G2 D03_P, P3_G3 GND, P3_G4 D07_P, P3_G5 GND, P3_G6 D11_P, P3_G7 GND, P3_G8 D15_P, P3_G9 GND, P3_G10 D19_P, P3_G11 GND, P3_G12 D23_P, P3_G13 GND, P3_G14 D27_P, P3_G15 GND, P3_G16 D31_P, P3_H1 GND, P3_H2 D03_N, P3_H3 GND, P3_H4 D07_N, P3_H5 GND, P3_H6 D11_N, P3_H7 GND, P3_H8 D15_N, P3_H9 GND, P3_H10 D19_N, P3_H11 GND, P3_H12 D23_N, P3_H13 GND, P3_H14 D27_N, P3_H15 GND, P3_H16 D31_N, P3_I1 D0, P3_I2 GND, P3_I3 D1, P3_I4 GND, P3_I5 D2, P3_I6 GND, P3_I7 D3, P3_I8 GND, P3_I9 D4, P3_I10 GND, P3_I11 D5, P3_I12 GND, P3_I13 D6, P3_I14 GND, P3_I15 D7, P3_I16 GND
part E pins: P4_A1 D00_P, P4_A2 GND, P4_A3 D04_P, P4_A4 GND, P4_A5 D08_P, P4_A6 GND, P4_A7 D12_P, P4_A8 GND, P4_A9 D16_P, P4_A10 GND, P4_A11 D20_P, P4_A12 GND, P4_A13 D24_P, P4_A14 GND, P4_A15 D28_P, P4_A16 GND, P4_B1 D00_N, P4_B2 GND, P4_B3 D04 _N, P4_B4 GND, P4_B5 D08_N, P4_B6 GND, P4_B7 D12_N, P4_B8 GND, P4_B9 D16_N, P4_B10 GND, P4_B11 D20_N, P4_B12 GND, P4_B13 D24_N, P4_B14 GND, P4_B15 D28_N, P4_B16 GND, P4_C1 GND, P4_C2 D02_P, P4_C3 GND, P4_C4 D06_P, P4_C5 GND, P4_C6 D10_P, P4_C7 GND, P4_C8 D14_P, P4_C9 GND, P4_C10 D18_P, P4_C11 GND, P4_C12 D22_P, P4_C13 GND, P4_C14 D26_P, P4_C15 GND, P4_C16 D30_P, P4_D1 GND, P4_D2 D02_N, P4_D3 GND, P4_D4 D06_N, P4_D5 GND, P4_D6 D10_N, P4_D7 GND, P4_D8 D14_N, P4_D9 GND, P4_D10 D18_N, P4_D11 GND, P4_D12 D22_N, P4_D13 GND, P4_D14 D26_N, P4_D15 GND, P4_D16 D30_N, P4_E1 D01_P, P4_E2 GND, P4_E3 D05_P, P4_E4 GND, P4_E5 D09_P, P4_E6 GND, P4_E7 D13_P, P4_E8 GND, P4_E9 D17_P, P4_E10 GND, P4_E11 D21_P, P4_E12 GND, P4_E13 D25_P, P4_E14 GND, P4_E15 D29_P, P4_E16 GND, P4_F1 D01_N, P4_F2 GND, P4_F3 D05_N, P4_F4 GND, P4_F5 D09_N, P4_F6 GND, P4_F7 D13_N, P4_F8 GND, P4_F9 D17_N, P4_F10 GND, P4_F11 D21_N, P4_F12 GND, P4_F13 D25_N, P4_F14 GND, P4_F15 D29_N, P4_F16 GND, P4_G1 GND, P4_G2 D03_P, P4_G3 GND, P4_G4 D07_P, P4_G5 GND, P4_G6 D11_P, P4_G7 GND, P4_G8 D15_P, P4_G9 GND, P4_G10 D19_P, P4_G11 GND, P4_G12 D23_P, P4_G13 GND, P4_G14 D27_P, P4_G15 GND, P4_G16 D31_P, P4_H1 GND, P4_H2 D03_N, P4_H3 GND, P4_H4 D07_N, P4_H5 GND, P4_H6 D11_N, P4_H7 GND, P4_H8 D15_N, P4_H9 GND, P4_H10 D19_N, P4_H11 GND, P4_H12 D23_N, P4_H13 GND, P4_H14 D27_N, P4_H15 GND, P4_H16 D31_N, P4_I1 D0, P4_I2 GND, P4_I3 D1, P4_I4 GND, P4_I5 D2, P4_I6 GND, P4_I7 D3, P4_I8 GND, P4_I9 D4, P4_I10 GND, P4_I11 D5, P4_I12 GND, P4_I13 D6, P4_I14 GND, P4_I15 D7, P4_I16 GND

## XH2.54-3P
designator J?, comment XH2.54-3P卧贴
footprint CONN-SMD_3P-P2.50_XUNPU_WAFER-XH2.54-3PWB
pins: 1, 2, 3, 4, 5

## XH2.54-4P
designator J?, comment XH2.54-4P卧贴
footprint CONN-SMD_3P-P2.50_XUNPU_WAFER-XH2.54-3PWB
pins: 1, 2, 3, 4, 5, 6

## XMG7015_P9
designator J?
pins: 1 B35__L8_P, 2 B35__L8_N, 3 B35__L12_P, 4 B35__L12_N, 5 B35__L4_P, 6 B35__L4_N, 7 B35__L7_P, 8 B35__L7_N, 9 B35__H5_P, 10 B35__H5_N, 11 VCC_5P0, 12 GND, 13 B35__L6_P, 14 B35__L6_N, 15 B35__L24_P, 16 B35__L24_N, 17 B35__L22_P, 18 B35__L22_N, 19 B35__L23_P, 20 B35__L23_N, 21 B35__L21_P, 22 B35__L21_N, 23 B35__L16_P, 24 B35__L16_N, 25 B35__L5_P, 26 B35__L5_N, 27 B35__L18_P, 28 B35__L18_N, 29 VCC_3P3, 30 GND, 31 B35__L2_P, 32 B35__L2_N, 33 B35__L15_P, 34 B35__L15_N, 35 B35__L3_P, 36 B35__L3_N, 37 B35__L10_P, 38 B35__L10_N, 39 B35__L9_P, 40 B35__L9_N